# Altium footprint library LM4755 Stereo 11W Audio Amplifier.PcbLib: 2 footprints
Each footprint in its own frame and in the unit in brackets; x right, y up, seen from the top. Pads: shape width x height; smd on the part's side, far side on the other; paste and mask are expansions set on the pad; w line width, h text height; cw(c..) or ccw(c..) is an arc to the next point about the centre after c.
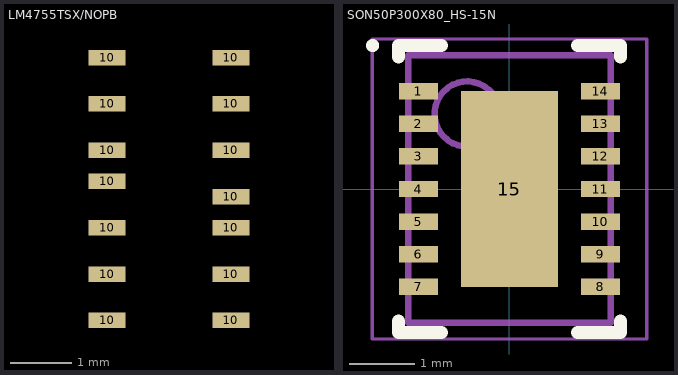
[diagram p0: the footprints below, top view; thin cyan lines are the x and y axes]

## LM4755TSX/NOPB [mm] "Amplifier IC 2-Channel (Stereo) Class AB TO-263-9"
pads (14):
  rect 0.6x0.25 smd: 10(7.747,12.006) 10(7.747,12.756) 10(7.747,13.506) 10(7.747,14.256) 10(7.747,14.756) 10(7.747,15.506) 10(7.747,16.256) 10(9.747,12.006) 10(9.747,12.756) 10(9.747,13.506) 10(9.747,14.006) 10(9.747,14.756) 10(9.747,15.506) 10(9.747,16.256)

## SON50P300X80_HS-15N [mm] "SON, 14-Leads, Body 4.00x3.00mm, Pitch 0.50mm, Thermal Pad 3.00x1.49mm, IPC Medium Density"
height 0.8
pads (15):
  rect 0.6x0.25 smd: 1(-1.395,1.5) 2(-1.395,1) 3(-1.395,0.5) 4(-1.395,0) 5(-1.395,-0.5) 6(-1.395,-1) 7(-1.395,-1.5) 8(1.395,-1.5) 9(1.395,-1) 10(1.395,-0.5) 11(1.395,0) 12(1.395,0.5) 13(1.395,1) 14(1.395,1.5)
  rect 1.49x3 smd: 15(0,0)
Top Overlay:
  circle w0.1: c-2.1,2.2 r0.05
  lines w0.2: -1.7,-2.025 -1.7,-2.2 -1.045,-2.2 ; -1.7,2.025 -1.7,2.2 -1.045,2.2 ; 1.045,-2.2 1.7,-2.2 1.7,-2.025 ; 1.045,2.2 1.7,2.2 1.7,2.025
Mechanical 13:
  circle w0.1: c-0.65,1.15 r0.5
  lines w0.1: -1.55,-2.05 1.55,-2.05 1.55,2.05 -1.55,2.05 -1.55,-2.05
Mechanical 15:
  lines w0.05: -2.105,-2.3 2.105,-2.3 2.105,2.3 -2.105,2.3 -2.105,-2.3
  lines w0.1: -0.5,0 0.5,0 ; 0,-0.5 0,0.5
3D body: height 0.8, standoff 0, extent -1.55,-2.05 1.55,2.05